# Altium schematic symbol library MAX14871EUE&plus_T.SchLib: 2 symbols
Pins are listed as number, name and electrical type; pins without a type are passive.

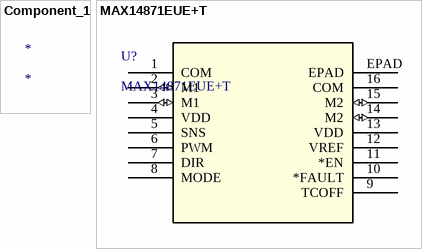
[diagram p0: symbols Component_1 to MAX14871EUE+T]

## Component_1
designator *

## MAX14871EUE+T
designator U?
No Description Available; Mfr_Name: Analog Devices Inc; Copyright: Copyright (C) 2022 Ultra Librarian. All rights reserved.; Manufacturer_Part_Number: MAX14871EUE+T; RefDes: RefDes; Type: DEV
footprint 21-0108_U16E+3_MXM
pins: 1 COM, 2 M1 (io), 3 M1 (io), 4 VDD (power), 5 SNS, 6 PWM, 7 DIR, 8 MODE, 9 TCOFF, 10 *FAULT, 11 *EN, 12 VREF (power), 13 VDD (power), 14 M2 (io), 15 M2 (io), 16 COM, EPAD